# EAGLE library part MN3101 (library GFE LOGO)
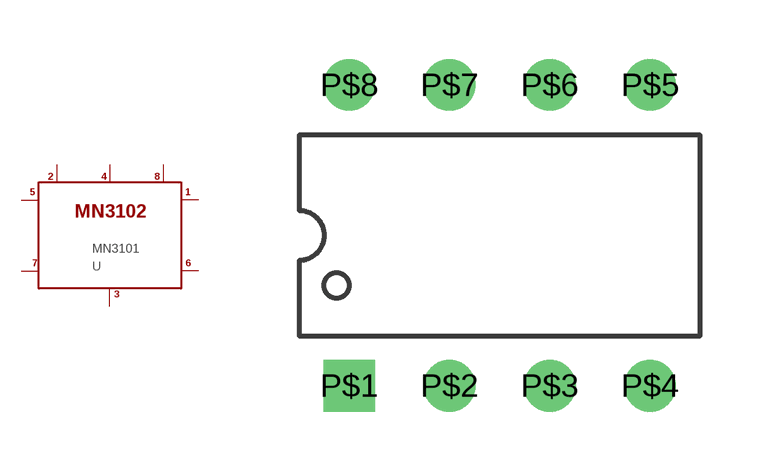
[diagram p3: symbol with the pads of DIL8; footprint DIL8]

Designator prefix -

## MN3101  [DIL8]
P$1  P$1  pwr
P$2  P$2
P$3  P$3  pwr
P$4  P$4
P$5  P$5
P$6  P$6
P$7  P$7
P$8  P$8

## Footprint DIL8 (pad centres in mm)
drill 0.8 square: P$1 -3.81,-3.81
drill 0.8: P$2 -1.27,-3.81; P$3 1.27,-3.81; P$4 3.81,-3.81; P$5 3.81,3.81; P$6 1.27,3.81; P$7 -1.27,3.81; P$8 -3.81,3.81